# Altium footprint library Line.PcbLib: 8 footprints
Each footprint in its own frame and in the unit in brackets; x right, y up, seen from the top. Pads: shape width x height; smd on the part's side, far side on the other; paste and mask are expansions set on the pad; w line width, h text height; cw(c..) or ccw(c..) is an arc to the next point about the centre after c.
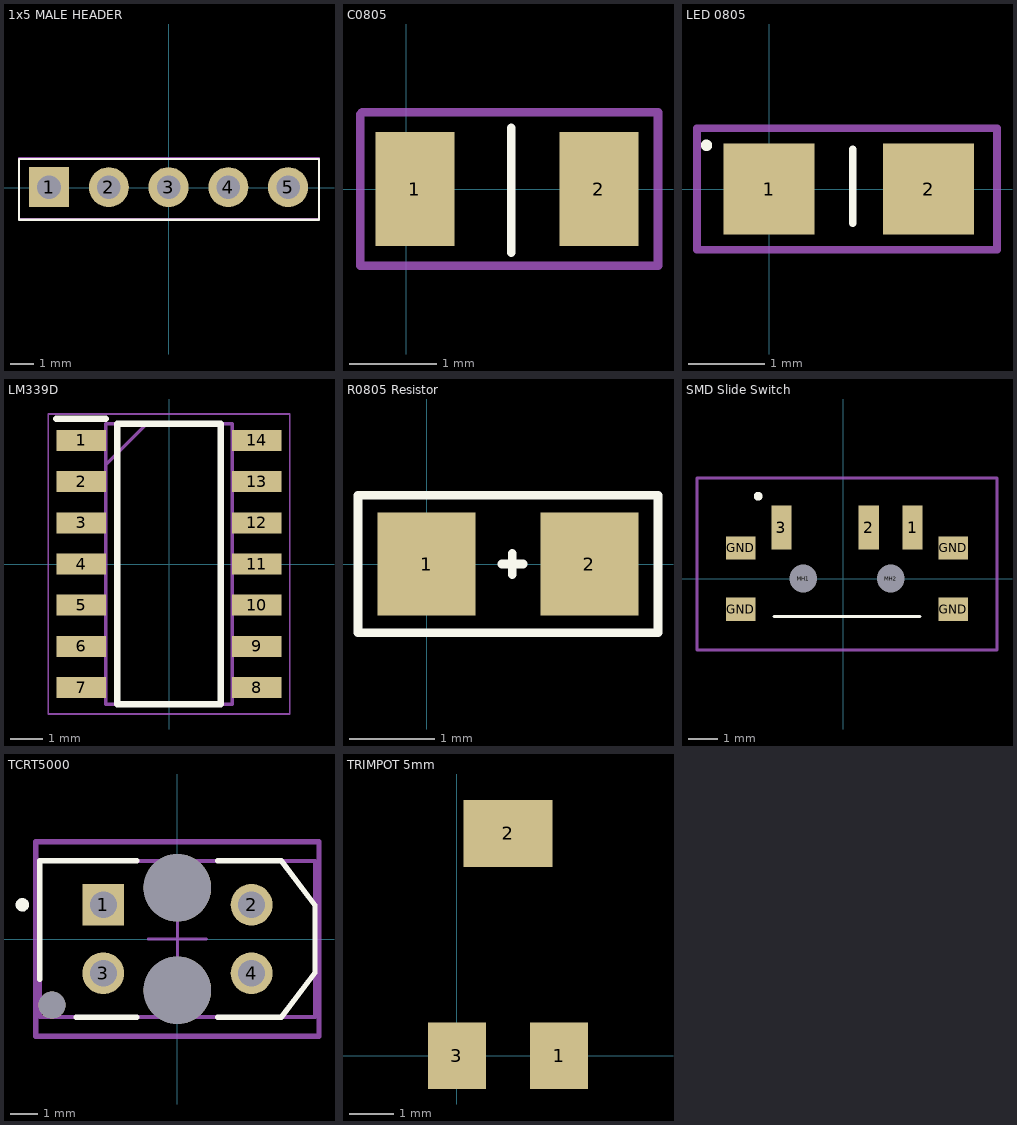
[diagram p0: the footprints below, top view; thin cyan lines are the x and y axes]

## 1x5 MALE HEADER [mm]
pads (5):
  rect 1.7x1.7 hole 1 mask+0.05: 1(-5.08,0.025)
  round 1.7 hole 1 mask+0.05: 2(-2.54,0.025) 3(0,0.025) 4(2.54,0.025) 5(5.08,0.025)
Top Overlay:
  lines w0.1: -6.355,-1.35 -6.355,1.225 6.395,1.225 6.395,-1.35 -6.355,-1.35
Mechanical 3:
  lines w0.1: -6.355,-1.325 -6.355,1.25 6.395,1.25 6.395,-1.325 -6.355,-1.325
3D body "User Library-PinHeaderX5-1.STEP": height 8.51, standoff -3.68, extent -6.3,-1.425 6.4,1.495

## C0805 [mm] "C0805 CAPACITOR"
pads (2):
  rect 0.9x1.3 smd: 1(0.1,0) 2(2.2,0)
Top Overlay:
  lines w0.1: 1.2,-0.725 1.2,0.7
Mechanical 3:
  lines w0.1: -0.525,-0.875 2.875,-0.875 2.875,0.875 -0.5,0.875 -0.525,0.85 -0.525,-0.875
3D body "CircuitWorks-CAPACITOR 0805.step": height 0.73, standoff -0.03, extent 0.2,-0.66 2.2,0.65

## LED 0805 [mm]
pads (2):
  rect 1.2x1.2 smd: 1(0,0) 2(2.1,0)
Top Overlay:
  circle w0.1: c-0.825,0.575 r0.025
  lines w0.1: 1.1,-0.45 1.1,0.525
Mechanical 3:
  lines w0.1: -0.95,-0.8 -0.95,0.8 3,0.8 3,-0.8 -0.95,-0.8
3D body "ALSRobot-LED0805(R).step": height 1.1, standoff 0, extent 0.04,-0.625 2.06,0.625

## LM339D [mm] "LM339 Comparator"
pads (14):
  rect 1.525x0.65 smd: 1(-2.712,3.81) 2(-2.712,2.54) 3(-2.712,1.27) 4(-2.712,0) 5(-2.712,-1.27) 6(-2.712,-2.54) 7(-2.712,-3.81) 8(2.712,-3.81) 9(2.712,-2.54) 10(2.712,-1.27) 11(2.712,0) 12(2.712,1.27) 13(2.712,2.54) 14(2.712,3.81)
Top Overlay:
  lines w0.2: -3.475,4.485 -1.95,4.485 ; -1.6,-4.325 1.6,-4.325 1.6,4.325 -1.6,4.325 -1.6,-4.325
Mechanical 13:
  lines w0.1: -1.95,3.055 -0.68,4.325 ; -1.95,-4.325 1.95,-4.325 1.95,4.325 -1.95,4.325 -1.95,-4.325
Mechanical 15:
  lines w0.05: -3.725,-4.625 3.725,-4.625 3.725,4.625 -3.725,4.625 -3.725,-4.625
3D body "LM339D.stp": height 1.75, standoff 0, extent -3.013,-4.315 3.013,4.335

## R0805 Resistor [mm]
pads (2):
  rect 1.14x1.2 smd: 1(0,0) 2(1.9,0)
Top Overlay:
  lines w0.1: 0.875,0 1.125,0 ; 1,-0.125 1,0.125 ; -0.8,-0.8 -0.8,0.8 2.7,0.8 2.7,-0.8 -0.8,-0.8
3D body "CircuitWorks-RESISTOR 0805.step": height 0.43, standoff -0.03, extent -0.1,-0.63 1.9,0.63

## SMD Slide Switch [mm] "SMD Slide Switch right angle"
pads (9):
  rect 0.7x1.5 smd: 1(2.377,1.75) 2(0.877,1.75) 3(-2.123,1.75)
  rect 1x0.8 smd: GND(-3.523,-1.05) GND(-3.523,1.05) GND(3.777,-1.05) GND(3.777,1.05)
  round 0.475 hole 0.95 unplated: MH1(-1.373,0) MH2(1.627,0)
Top Overlay:
  lines w0.1: -2.373,-1.3 2.627,-1.3
  lines w0.2: -2.923,2.775 cw(c-2.923,2.825) -2.923,2.875 ; -2.923,2.775 ccw(c-2.923,2.825) -2.923,2.875 ; -2.923,2.775 cw(c-2.923,2.825) -2.923,2.875
Mechanical 15:
  lines w0.1: -5.023,-2.45 -5.023,3.45 5.277,3.45 5.277,-2.45 -5.023,-2.45
3D body "1437575-1.stp": height 1.4, standoff -0.5, extent -3.75,-2.8 3.95,2.289

## TCRT5000 [mm] "TCRT5000 Kızıl Ötesi Sensör"
pads (7):
  rect 1.55x1.55 hole 1 paste-1000 mask+0: 1(-2.75,1.27)
  round 1.55 hole 1 paste-1000 mask+0: 2(2.75,1.27) 3(-2.75,-1.27) 4(2.75,-1.27)
  round 1 hole 1 unplated paste-1000 mask+0: ""(-4.65,-2.45)
  round 2.5 hole 2.5 unplated paste-1000 mask+0: ""(0,-1.9) ""(0,1.9)
Top Overlay:
  circle w0.25: c-5.75,1.27 r0.125
  lines w0.2: -5.1,-1.5 -5.1,2.9 -1.5,2.9 ; -3.75,-2.9 -1.5,-2.9 ; 1.5,-2.9 3.85,-2.9 5.1,-1.25 5.1,1.25 3.85,2.9 1.5,2.9
Mechanical 10:
  lines w0.2: -5.25,-3.6 -5.25,3.6 5.25,3.6 5.25,-3.6 -5.25,-3.6
Mechanical 12:
  lines w0.15: -5.1,-2.9 -5.1,2.9 5.1,2.9 5.1,-2.9 -5.1,-2.9
Mechanical 15:
  lines w0.1: -1.08,0 1.08,0 ; 0,-1.08 0,1.08
  lines w0.2: -5.25,-3.6 -5.25,3.6 5.25,3.6 5.25,-3.6 -5.25,-3.6
3D body "3dmodel.step": height 0.25, standoff 0, extent -5.25,-3.6 5.25,3.6

## TRIMPOT 5mm [mm] "5mm Square Trimpot"
pads (3):
  rect 1.3x1.5 smd mask+0.05: 1(2.3,0) 3(0,0)
  rect 2x1.5 smd mask+0.05: 2(1.15,5)
3D body "User Library-vishay_TS53.step": height 2.8, standoff 0, extent -1.325,-0.225 3.675,5.175